# EAGLE library part MAX31865 (library U-Sensor)
MAX31865 [MAXIM,MAX31865ATP+] RTD 15BIT SPI 20TQFN
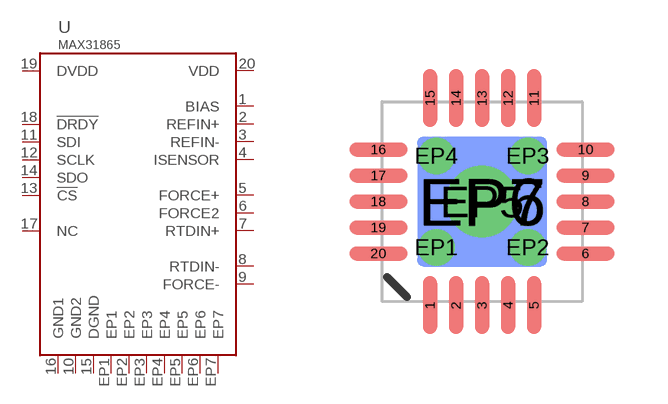
[diagram p1: symbol with the pads of 20TQFN-HAND; footprint 20TQFN-HAND]

Designator prefix U

## MAX31865  [20TQFN-HAND]
1  BIAS  out
2  REFIN+  pas
3  REFIN-  pas
4  ISENSOR  in
5  FORCE+  out
6  FORCE2  out
7  RTDIN+  pas
8  RTDIN-  pas
9  FORCE-  in
10  GND2  pwr
11  SDI  in
12  SCLK  in
13  !CS  in
14  SDO  out
15  DGND  pwr
16  GND1  pwr
17  NC  pas
18  !DRDY  out
19  DVDD  pwr
20  VDD  pwr
EP1  EP1  pwr
EP2  EP2  pwr
EP3  EP3  pwr
EP4  EP4  pwr
EP5  EP5  pwr
EP6  EP6  pwr
EP7  EP7  pas

## Footprint 20TQFN-HAND (pad centres in mm)
MAX31865 [MAXIM,MAX31865ATP+] RTD 15BIT SPI 20TQFN PADS ARE FOR HAND SOLDERING AND REWORK
smd 0.35 x 1.45: 1 -1.3,-2.59; 2 -0.65,-2.59; 3 0,-2.59; 4 0.65,-2.59; 5 1.3,-2.59; 11 1.3,2.59; 12 0.65,2.59; 13 0,2.59; 14 -0.65,2.59; 15 -1.3,2.59
smd 1.45 x 0.35: 6 2.59,-1.3; 7 2.59,-0.65; 8 2.59,0; 9 2.59,0.65; 10 2.59,1.3; 16 -2.59,1.3; 17 -2.59,0.65; 18 -2.59,0; 19 -2.59,-0.65; 20 -2.59,-1.3
drill 0.406: EP1 -1.143,-1.143; EP2 1.143,-1.143; EP3 1.143,1.143; EP4 -1.143,1.143
drill 1.191: EP5 0,0
smd 3.25 x 3.25: EP6 0,0
smd 3.25 x 3.25 bottom: EP7 0,0